# Altium schematic symbol library TG2520SMN.SchLib: 1 symbol
Pins are listed as number, name and electrical type; pins without a type are passive.

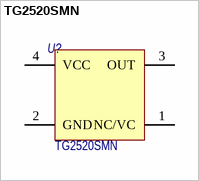
[diagram p0: symbol TG2520SMN]

## TG2520SMN
designator U?
Temperature compensated crystal oscillator; Потребление: 0.01; Назначение: Temperature compensated crystal oscillator; Наименование: TG2520SMN
footprint SMD_2520_Crystal_Oscilator (Crystal Oscillator 2.5x2.0mm)
pins: 1 NC/VC, 2 GND, 3 OUT, 4 VCC